# Altium integrated library Res-SMD_V2.IntLib: 2369 symbols (part 1 of 18)
Pins are listed as number, name and electrical type; pins without a type are passive.

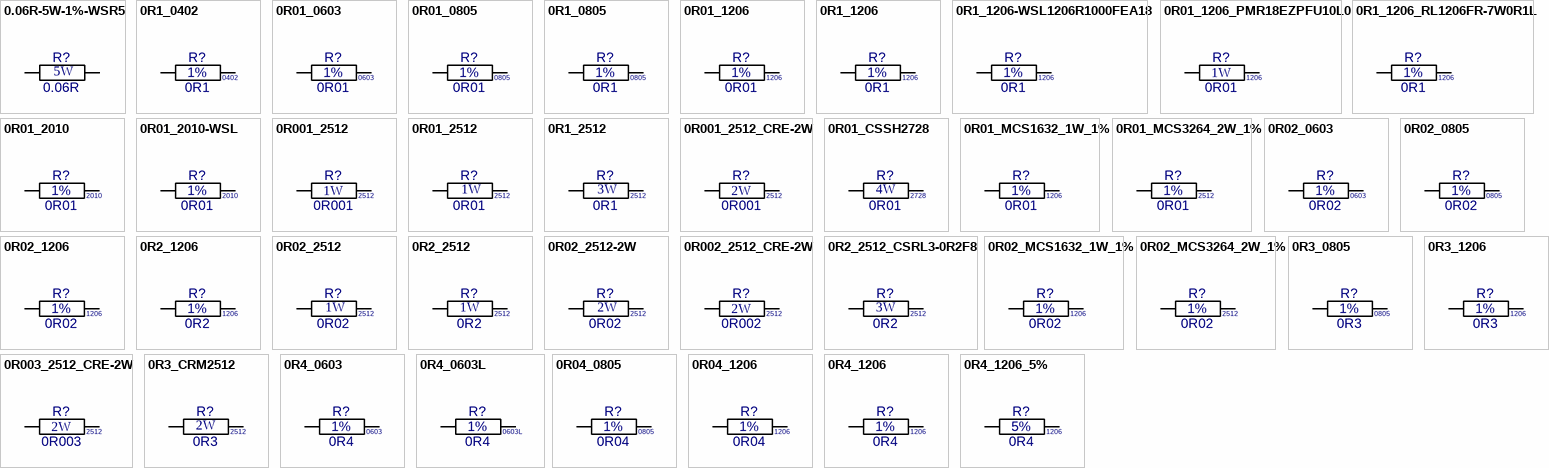
[diagram p0: symbols 0.06R-5W-1%-WSR5 to 0R4_1206_5%]

## 0.06R-5W-1%-WSR5
designator R?  value 0.06R  Watt: 5W  (hidden comment: 0.06R-5W-1%-WSR5)
Resistor Power Metal Strip; Manufacturer: Yageo; Part Number: WSR5R0600FEA; Tol: 1%; Reutech PN: 5905-CR-0060; Package: RES-WSR5; EDM-PN: *; Text2: *; Text1: *; SAAB PN: *; DCE Part No: *
footprint Res-WSR5 (Res WSR 5W 11.56x6.98mm)
pins: 1, 2

## 0R1_0402
designator R?, comment value 0R1  Tol: 1%  Text1: 0402  (hidden comment: 0R1_R0402_1%)
Resistor Chip SMD; Manufacturer: Various; Part Number: 0R1 0402 1%; Watt: 63mW; EDM-PN: RES1494; Package: RESC0402X40N; Text2: *; Reutech PN: *; SAAB PN: *; DCE Part No: *
footprint RESC0402X40N (Chip Resistor, 0402, 2-Leads, Body 1.1x0.5mm, IPC Medium Density)
pins: 1, 2

## 0R01_0603
designator R?, comment value 0R01  Tol: 1%  Text1: 0603  (hidden comment: 0R01_R0603_1%)
Resistor Chip SMD; Manufacturer: Various; Part Number: 0R01 0603 1%; Watt: 250mW; Package: RESC0603X60N; EDM-PN: *; Text2: *; Reutech PN: *; SAAB PN: *; DCE Part No: *
footprint RESC0603X60N (Chip Resistor, 0603, 2-Leads, Body 1.6x0.8mm, IPC Medium Density)
pins: 1, 2

## 0R01_0805
designator R?, comment value 0R01  Tol: 1%  Text1: 0805  (hidden comment: 0R01_R0805_1%)
Resistor Chip SMD; Manufacturer: Various; Part Number: 0R01 0805 1%; Watt: 250mW; Package: RESC0805X65N; EDM-PN: *; Text2: *; Reutech PN: *; SAAB PN: *; DCE Part No: *
footprint RESC0805X65N (Chip Resistor, 0805, 2-Leads, Body 2.0x1.3mm, IPC Medium Density)
pins: 1, 2

## 0R1_0805
designator R?, comment value 0R1  Tol: 1%  Text1: 0805  (hidden comment: 0R1_R0805_1%)
Resistor Chip SMD; Manufacturer: Various; Part Number: 0R1 0805 1%; Watt: 125mW; Package: RESC0805X65N; EDM-PN: *; Text2: *; Reutech PN: *; SAAB PN: *; DCE Part No: *
footprint RESC0805X65N (Chip Resistor, 0805, 2-Leads, Body 2.0x1.3mm, IPC Medium Density)
pins: 1, 2

## 0R01_1206
designator R?, comment value 0R01  Tol: 1%  Text1: 1206  (hidden comment: 0R01_R1206_1%)
Resistor Chip SMD; Manufacturer: Various; Part Number: 0R01 1206 1%; Watt: 250mW; Package: RESC1206X71N; EDM-PN: *; Text2: *; Reutech PN: *; SAAB PN: *; DCE Part No: *
footprint RESC1206X71N (Chip Resistor, 1206, 2-Leads, Body 3.2x1.6mm, IPC Medium Density)
pins: 1, 2

## 0R1_1206
designator R?, comment value 0R1  Tol: 1%  Text1: 1206  (hidden comment: 0R1_R1206_1%)
Resistor Chip SMD; Manufacturer: Various; Part Number: 0R1 1206 1%; Watt: 250mW; Package: RESC1206X71N; EDM-PN: *; Text2: *; Reutech PN: *; SAAB PN: *; DCE Part No: *
footprint RESC1206X71N (Chip Resistor, 1206, 2-Leads, Body 3.2x1.6mm, IPC Medium Density)
pins: 1, 2

## 0R1_1206-WSL1206R1000FEA18
designator R?, comment value 0R1  Tol: 1%  Text1: 1206  (hidden comment: WSL1206R1000FEA18)
Resistor Chip Power metal Strip AEC-Q200; Manufacturer: Vishy; Watt: 500mW; Reutech PN: 5905-CH-0001; Part Number: WSL1206R1000FEA18; Package: RESC1206X71N; EDM-PN: *; Text2: *; SAAB PN: *; DCE Part No: *
footprint RESC1206X71N (Chip Resistor, 1206, 2-Leads, Body 3.2x1.6mm, IPC Medium Density)
pins: 1, 2

## 0R01_1206_PMR18EZPFU10L0
designator R?, comment value 0R01  Watt: 1W  Text1: 1206  (hidden comment: PMR18EZPFU10L0)
Resistor Chip SMD; Manufacturer: Rohm; Tol: 1%; Part Number: PMR18EZPFU10L0; Package: RES-PMR18-1206; EDM-PN: *; Text2: *; Reutech PN: *; SAAB PN: *; DCE Part No: *
footprint RES-PMR18-1206 (PMR18 3.2x1.6mm)
pins: 1, 2

## 0R1_1206_RL1206FR-7W0R1L
designator R?, comment value 0R1  Tol: 1%  Text1: 1206  (hidden comment: RL1206FR-7W0R1L)
Resistor Current Sense; Manufacturer: Yageo; Watt: 500mW; Part Number: RL1206FR-7W0R1L; Package: RESC1206X71N; EDM-PN: *; Text2: *; Reutech PN: *; SAAB PN: *; DCE Part No: *
footprint RESC1206X71N (Chip Resistor, 1206, 2-Leads, Body 3.2x1.6mm, IPC Medium Density)
pins: 1, 2

## 0R01_2010
designator R?, comment value 0R01  Tol: 1%  Text1: 2010  (hidden comment: 0R01_R2010_1%)
Resistor Current Sense Thick Film; Manufacturer: Stackpole; Part Number: CSRN2010FK10L0; Watt: 500mW; EDM-PN: RES1378; Package: RESC2010X71N; Text2: *; Reutech PN: *; SAAB PN: *; DCE Part No: *
footprint RESC2010X71N (Chip Resistor, 2010, 2-Leads, Body 5.0x2.5mm, IPC Medium Density)
pins: 1, 2

## 0R01_2010-WSL
designator R?, comment value 0R01  Tol: 1%  Text1: 2010  (hidden comment: WSL2010R0100FEA)
Resistor High Current Jumper; Manufacturer: Vishay; Watt: 500mW; SAAB PN: 1ACA00466AEA; Part Number: WSL2010R0100FEA; Package: RES-WSL2010-H; EDM-PN: *; Text2: *; Reutech PN: *; DCE Part No: *
footprint RES-WSL2010-H (Resistor, WSL2010, 2-Leads, Body 5.0x2.5mm, IPC Medium Density)
pins: 1, 2

## 0R001_2512
designator R?, comment value 0R001  Watt: 1W  Text1: 2512  (hidden comment: 0R001_R2512_1%)
Resistor Chip SMD; Manufacturer: Various; Part Number: 0R001 2512 1%; Tol: 1%; Package: RESC2512X71N; EDM-PN: *; Text2: *; Reutech PN: *; SAAB PN: *; DCE Part No: *
footprint RESC2512X71N (Chip Resistor, 2512, 2-Leads, Body 6.3x3.2mm, IPC Medium Density)
pins: 1, 2

## 0R01_2512
designator R?, comment value 0R01  Watt: 1W  Text1: 2512  (hidden comment: 0R01_R2512_1W_1%)
Resistor Metal Strip; Manufacturer: Various; Part Number: 0R01 2512  1%; Tol: 1%; Package: RESC2512X71N; EDM-PN: *; Text2: *; Reutech PN: *; SAAB PN: *; DCE Part No: *
footprint RESC2512X71N (Chip Resistor, 2512, 2-Leads, Body 6.3x3.2mm, IPC Medium Density)
pins: 1, 2

## 0R1_2512
designator R?, comment value 0R1  Watt: 3W  Text1: 2512  (hidden comment: 0R1_R2512_3W_1%)
Resistor Chip SMD; Manufacturer: Various; Part Number: 0R1 2512  1%; EDM-PN: RES1515; Reutech PN: 5905-CR-0061; Tol: 1%; Package: RESC2512X71N; Text2: *; SAAB PN: *; DCE Part No: *
footprint RESC2512X71N (Chip Resistor, 2512, 2-Leads, Body 6.3x3.2mm, IPC Medium Density)
pins: 1, 2

## 0R001_2512_CRE-2W
designator R?, comment value 0R001  Watt: 2W  Text1: 2512  (hidden comment: 0R001_R2512_1%-CRE2W)
Resistor Chip High Power Current Sense; Manufacturer: Bourns; Part Number: CRE2512-FZ-R001E-2; Tol: 1%; Package: CRE2512_1-3; EDM-PN: *; Text2: *; Reutech PN: *; SAAB PN: *; DCE Part No: *
footprint CRE2512_1-3 (Resistor 2512 6.3x3.35mm)
pins: 1, 2

## 0R01_CSSH2728
designator R?, comment value 0R01  Watt: 4W  Text1: 2728  (hidden comment: 0R01_CSSH2728_4W_1%)
Resistor Ultra Precision Current Sensing; Manufacturer: Stackpole; Part Number: CSSH2728FT10L0; Tol: 1%; Package: RES-CSSH2728; EDM-PN: *; Text2: *; Reutech PN: *; SAAB PN: *; DCE Part No: *
footprint RES-CSSH2728 (Chip Resistor 2728 6.71x7.19mm)
pins: 1, 2

## 0R01_MCS1632_1W_1%
designator R?  value 0R01  Tol: 1%  Text1: 1206  (hidden comment: 0R01_MCS1632_1W_1%)
Res Metal Element Current Sense; Manufacturer: Ohmite; Part Number: MCS1632R010FER; Watt: 1W; EDM-PN: RES1486; Package: RES-MCS1631; Text2: *; Reutech PN: *; SAAB PN: *; DCE Part No: *
footprint RES-MCS1632 (Chip Resistor 3.2x1.6mm)
pins: 1, 2

## 0R01_MCS3264_2W_1%
designator R?  value 0R01  Tol: 1%  Text1: 2512  (hidden comment: 0R01_MCS3264_2W_1%)
Res Metal Element Current Sense; Manufacturer: Ohmite; Part Number: MCS3264R010FER; Watt: 2W; Package: RES-MCS3264; EDM-PN: *; Text2: *; Reutech PN: *; SAAB PN: *; DCE Part No: *
footprint RES-MCS3264 (Chip Resistor 6.4x3.2mm)
pins: 1, 2

## 0R02_0603
designator R?, comment value 0R02  Tol: 1%  Text1: 0603  (hidden comment: 0R02_R0603_1%)
Resistor Chip SMD; Manufacturer: Various; Part Number: 0R02 0603 1%; Watt: 100mW; Package: RESC0603X60N; EDM-PN: *; Text2: *; Reutech PN: *; SAAB PN: *; DCE Part No: *
footprint RESC0603X60N (Chip Resistor, 0603, 2-Leads, Body 1.6x0.8mm, IPC Medium Density)
pins: 1, 2

## 0R02_0805
designator R?, comment value 0R02  Tol: 1%  Text1: 0805  (hidden comment: 0R02_R0805_1%)
Resistor Chip SMD; Manufacturer: Various; Part Number: 0R02 0805 1%; Watt: 125mW; Package: RESC0805X65N; EDM-PN: *; Text2: *; Reutech PN: *; SAAB PN: *; DCE Part No: *
footprint RESC0805X65N (Chip Resistor, 0805, 2-Leads, Body 2.0x1.3mm, IPC Medium Density)
pins: 1, 2

## 0R02_1206
designator R?, comment value 0R02  Tol: 1%  Text1: 1206  (hidden comment: 0R02_R1206_1%)
Resistor Chip SMD; Manufacturer: Various; Part Number: 0R02 1206 1%; Watt: 250mW; Package: RESC1206X71N; EDM-PN: *; Text2: *; Reutech PN: *; SAAB PN: *; DCE Part No: *
footprint RESC1206X71N (Chip Resistor, 1206, 2-Leads, Body 3.2x1.6mm, IPC Medium Density)
pins: 1, 2

## 0R2_1206
designator R?, comment value 0R2  Tol: 1%  Text1: 1206  (hidden comment: 0R2_R1206_1%)
Resistor Chip SMD; Manufacturer: Various; Part Number: 0R2 1206 1%; Watt: 250mW; Package: RESC1206X71N; EDM-PN: *; Text2: *; Reutech PN: *; SAAB PN: *; DCE Part No: *
footprint RESC1206X71N (Chip Resistor, 1206, 2-Leads, Body 3.2x1.6mm, IPC Medium Density)
pins: 1, 2

## 0R02_2512
designator R?, comment value 0R02  Watt: 1W  Text1: 2512  (hidden comment: 0R02_R2512_1W_1%)
Resistor Chip SMD; Manufacturer: Various; Part Number: 0R02 2512  1%; Tol: 1%; Package: RESC2512X71N; EDM-PN: *; Text2: *; Reutech PN: *; SAAB PN: *; DCE Part No: *
footprint RESC2512X71N (Chip Resistor, 2512, 2-Leads, Body 6.3x3.2mm, IPC Medium Density)
pins: 1, 2

## 0R2_2512
designator R?, comment value 0R2  Watt: 1W  Text1: 2512  (hidden comment: 0R2_R2512_1%)
Resistor Chip SMD; Manufacturer: Various; Part Number: 0R2 2512 1%; Tol: 1%; Package: RESC2512X71N; EDM-PN: *; Text2: *; Reutech PN: *; SAAB PN: *; DCE Part No: *
footprint RESC2512X71N (Chip Resistor, 2512, 2-Leads, Body 6.3x3.2mm, IPC Medium Density)
pins: 1, 2

## 0R02_2512-2W
designator R?, comment value 0R02  Watt: 2W  Text1: 2512  (hidden comment: 0R02_R2512_1W_1%-2W)
Resistor Chip SMD Thick Film; Manufacturer: Various; Part Number: 0R02 2512  1% 2Watt; Tol: 1%; Package: RESC2512X71N; EDM-PN: *; Text2: *; Reutech PN: *; SAAB PN: *; DCE Part No: *
footprint RESC2512X71N (Chip Resistor, 2512, 2-Leads, Body 6.3x3.2mm, IPC Medium Density)
pins: 1, 2

## 0R002_2512_CRE-2W
designator R?, comment value 0R002  Watt: 2W  Text1: 2512  (hidden comment: 0R002_R2512_1%-CRE-2W)
Resistor Chip High Power Current Sense; Manufacturer: Bourns; Part Number: CRE2512-FZ-R002E-2; Tol: 1%; Package: CRE2512_1-3; EDM-PN: *; Text2: *; Reutech PN: *; SAAB PN: *; DCE Part No: *
footprint CRE2512_1-3 (Resistor 2512 6.3x3.35mm)
pins: 1, 2

## 0R2_2512_CSRL3-0R2F8
designator R?, comment value 0R2  Watt: 3W  Text1: 2512  (hidden comment: CSRL3-0R2F8)
Resistor Current Sense; Manufacturer: Riedon; Tol: 5%; Reutech PN: 5905-CR-0022; Part Number: CSRL3-0R2F8; Package: RESC2512X71N; EDM-PN: *; Text2: *; SAAB PN: *; DCE Part No: *
footprint RESC2512X71N (Chip Resistor, 2512, 2-Leads, Body 6.3x3.2mm, IPC Medium Density)
pins: 1, 2

## 0R02_MCS1632_1W_1%
designator R?  value 0R02  Tol: 1%  Text1: 1206  (hidden comment: 0R02_MCS1632_1W_1%)
Res Metal Element Current Sense; Manufacturer: Ohmite; Part Number: MCS1632R020FER; Watt: 1W; Package: RES-MCS1631; EDM-PN: *; Text2: *; Reutech PN: *; SAAB PN: *; DCE Part No: *
footprint RES-MCS1632 (Chip Resistor 3.2x1.6mm)
pins: 1, 2

## 0R02_MCS3264_2W_1%
designator R?  value 0R02  Tol: 1%  Text1: 2512  (hidden comment: 0R02_MCS3264_2W_1%)
Res Metal Element Current Sense; Manufacturer: Ohmite; Part Number: MCS3264R020FER; Watt: 2W; Package: RES-MCS3264; EDM-PN: *; Text2: *; Reutech PN: *; SAAB PN: *; DCE Part No: *
footprint RES-MCS3264 (Chip Resistor 6.4x3.2mm)
pins: 1, 2

## 0R3_0805
designator R?, comment value 0R3  Tol: 1%  Text1: 0805  (hidden comment: 0R3_R0805_1%)
Resistor Chip SMD; Manufacturer: Various; Part Number: 0R3 0805 1%; Watt: 125mW; Package: RESC0805X65N; EDM-PN: *; Text2: *; Reutech PN: *; SAAB PN: *; DCE Part No: *
footprint RESC0805X65N (Chip Resistor, 0805, 2-Leads, Body 2.0x1.3mm, IPC Medium Density)
pins: 1, 2

## 0R3_1206
designator R?, comment value 0R3  Tol: 1%  Text1: 1206  (hidden comment: 0R3_R1206_1%)
Resistor Chip SMD; Manufacturer: Various; Part Number: 0R3 1206 1%; Watt: 250mW; Package: RESC1206X71N; EDM-PN: *; Text2: *; Reutech PN: *; SAAB PN: *; DCE Part No: *
footprint RESC1206X71N (Chip Resistor, 1206, 2-Leads, Body 3.2x1.6mm, IPC Medium Density)
pins: 1, 2

## 0R003_2512_CRE-2W
designator R?, comment value 0R003  Watt: 2W  Text1: 2512  (hidden comment: 0R003_R2512_1%-CRE-2W)
Resistor Chip High Power Current Sense; Manufacturer: Bourns; Part Number: CRE2512-FZ-R003E-2; Tol: 1%; Package: CRE2512_1-3; EDM-PN: *; Text2: *; Reutech PN: *; SAAB PN: *; DCE Part No: *
footprint CRE2512_1-3 (Resistor 2512 6.3x3.35mm)
pins: 1, 2

## 0R3_CRM2512
designator R?, comment value 0R3  Watt: 2W  Text1: 2512  (hidden comment: 0R3_CRM2512_1%)
Resistor Pulse Resistant; Manufacturer: Bourns; Part Number: CRM2512FX-R300ELF; Tol: 1%; Package: CRM2512; EDM-PN: *; Text2: *; Reutech PN: *; SAAB PN: *; DCE Part No: *
footprint CRM2512 (CRM2512 6.3x3.2mm, IPC Medium Density)
pins: 1, 2

## 0R4_0603
designator R?, comment value 0R4  Tol: 1%  Text1: 0603  (hidden comment: 0R4_R0603_1%)
Resistor Chip SMD; Manufacturer: Walsin; Part Number: WW06PR402FTL; Watt: 250mW; Package: RESC0603X60N; EDM-PN: *; Text2: *; Reutech PN: *; SAAB PN: *; DCE Part No: *
footprint RESC0603X60N (Chip Resistor, 0603, 2-Leads, Body 1.6x0.8mm, IPC Medium Density)
pins: 1, 2

## 0R4_0603L
designator R?, comment value 0R4  Tol: 1%  Text1: 0603L  (hidden comment: 0R4_R0603L_1%)
Resistor Chip SMD; Manufacturer: Walsin; Part Number: WW06PR402FTL; Watt: 250mW; Package: RESC0603X60L; EDM-PN: *; Text2: *; Reutech PN: *; SAAB PN: *; DCE Part No: *
footprint RESC0603X60L (Chip Resistor, 0603, 2-Leads, Body 1.6x0.8mm, IPC Low Density)
pins: 1, 2

## 0R04_0805
designator R?, comment value 0R04  Tol: 1%  Text1: 0805  (hidden comment: 0R04_R0805_1%)
Resistor Chip SMD; Manufacturer: Various; Part Number: 0R04 0805 1%; Watt: 125mW; Package: RESC0805X65N; EDM-PN: *; Text2: *; Reutech PN: *; SAAB PN: *; DCE Part No: *
footprint RESC0805X65N (Chip Resistor, 0805, 2-Leads, Body 2.0x1.3mm, IPC Medium Density)
pins: 1, 2

## 0R04_1206
designator R?, comment value 0R04  Tol: 1%  Text1: 1206  (hidden comment: 0R04_R1206_1%)
Resistor Chip SMD; Manufacturer: Various; Part Number: 0R04 1206 1%; Watt: 250mW; Package: RESC1206X71N; EDM-PN: *; Text2: *; Reutech PN: *; SAAB PN: *; DCE Part No: *
footprint RESC1206X71N (Chip Resistor, 1206, 2-Leads, Body 3.2x1.6mm, IPC Medium Density)
pins: 1, 2

## 0R4_1206
designator R?, comment value 0R4  Tol: 1%  Text1: 1206  (hidden comment: 0R4_R1206_1%)
Resistor Chip SMD; Manufacturer: Various; Part Number: 0R4 1206 1%; Watt: 250mW; EDM-PN: RES1440; Package: RESC1206X71N; Text2: *; Reutech PN: *; SAAB PN: *; DCE Part No: *
footprint RESC1206X71N (Chip Resistor, 1206, 2-Leads, Body 3.2x1.6mm, IPC Medium Density)
pins: 1, 2

## 0R4_1206_5%
designator R?, comment value 0R4  Tol: 5%  Text1: 1206  (hidden comment: 0R4_R1206_5%)
Resistor Chip SMD; Manufacturer: Various; Part Number: 0R4 1206 5%; Watt: 250mW; Package: RESC1206X71N; EDM-PN: *; Text2: *; Reutech PN: *; SAAB PN: *; DCE Part No: *
footprint RESC1206X71N (Chip Resistor, 1206, 2-Leads, Body 3.2x1.6mm, IPC Medium Density)
pins: 1, 2

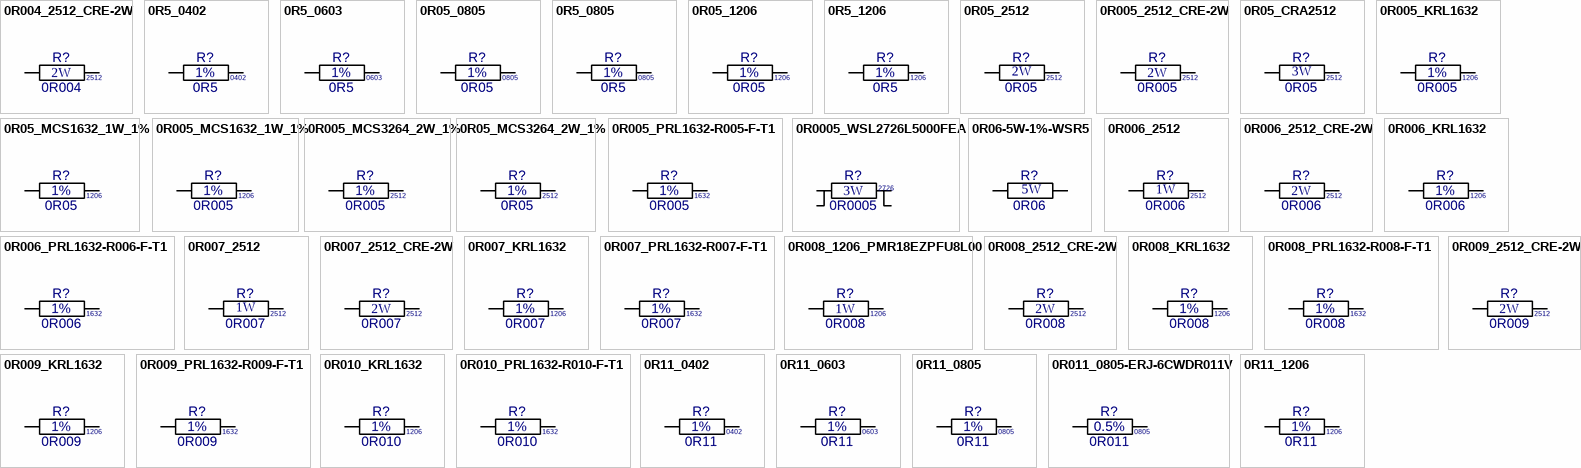
[diagram p1: symbols 0R004_2512_CRE-2W to 0R11_1206]

## 0R004_2512_CRE-2W
designator R?, comment value 0R004  Watt: 2W  Text1: 2512  (hidden comment: 0R004_R2512_1%-CRE-2W)
Resistor Chip High Power Current Sense; Manufacturer: Bourns; Part Number: CRE2512-FZ-R004E-2; Tol: 1%; Package: CRE2512_4-9; EDM-PN: *; Text2: *; Reutech PN: *; SAAB PN: *; DCE Part No: *
footprint CRE2512_4-9 (Resistor 2512 6.3x3.35mm)
pins: 1, 2

## 0R5_0402
designator R?, comment value 0R5  Tol: 1%  Text1: 0402  (hidden comment: 0R5_R0402_1%)
Resistor Chip SMD; Manufacturer: Various; Part Number: 0R5 0402 1%; Watt: 63mW; Package: RESC0402X40N; EDM-PN: *; Text2: *; Reutech PN: *; SAAB PN: *; DCE Part No: *
footprint RESC0402X40N (Chip Resistor, 0402, 2-Leads, Body 1.1x0.5mm, IPC Medium Density)
pins: 1, 2

## 0R5_0603
designator R?, comment value 0R5  Tol: 1%  Text1: 0603  (hidden comment: 0R5_R0603_1%)
Resistor Chip SMD; Manufacturer: Various; Part Number: 0R5 0603 1%; Watt: 100mW; Package: RESC0603X60N; EDM-PN: *; Text2: *; Reutech PN: *; SAAB PN: *; DCE Part No: *
footprint RESC0603X60N (Chip Resistor, 0603, 2-Leads, Body 1.6x0.8mm, IPC Medium Density)
pins: 1, 2

## 0R05_0805
designator R?, comment value 0R05  Tol: 1%  Text1: 0805  (hidden comment: 0R05_R0805_1%)
Resistor Chip SMD; Manufacturer: Various; Part Number: 0R05 0805 1%; Watt: 125mW; Package: RESC0805X65N; EDM-PN: *; Text2: *; Reutech PN: *; SAAB PN: *; DCE Part No: *
footprint RESC0805X65N (Chip Resistor, 0805, 2-Leads, Body 2.0x1.3mm, IPC Medium Density)
pins: 1, 2

## 0R5_0805
designator R?, comment value 0R5  Tol: 1%  Text1: 0805  (hidden comment: 0R5_R0805_1%)
Resistor Chip SMD; Manufacturer: Various; Part Number: 0R5 0805 1%; Watt: 125mW; Package: RESC0805X65N; EDM-PN: *; Text2: *; Reutech PN: *; SAAB PN: *; DCE Part No: *
footprint RESC0805X65N (Chip Resistor, 0805, 2-Leads, Body 2.0x1.3mm, IPC Medium Density)
pins: 1, 2

## 0R05_1206
designator R?, comment value 0R05  Tol: 1%  Text1: 1206  (hidden comment: 0R05_R1206_1%)
Resistor Chip SMD; Manufacturer: Various; Part Number: 0R05 1206 1%; Watt: 250mW; Package: RESC1206X71N; EDM-PN: *; Text2: *; Reutech PN: *; SAAB PN: *; DCE Part No: *
footprint RESC1206X71N (Chip Resistor, 1206, 2-Leads, Body 3.2x1.6mm, IPC Medium Density)
pins: 1, 2

## 0R5_1206
designator R?, comment value 0R5  Tol: 1%  Text1: 1206  (hidden comment: 0R5_R1206_1%)
Resistor Chip SMD; Manufacturer: Various; Part Number: 0R5 1206 1%; Watt: 250mW; Package: RESC1206X71N; EDM-PN: *; Text2: *; Reutech PN: *; SAAB PN: *; DCE Part No: *
footprint RESC1206X71N (Chip Resistor, 1206, 2-Leads, Body 3.2x1.6mm, IPC Medium Density)
pins: 1, 2

## 0R05_2512
designator R?, comment value 0R05  Watt: 2W  Text1: 2512  (hidden comment: 0R05_R2512_1%)
Resistor Metal Film; Manufacturer: Various; Part Number: 0R05 2512 1%; Tol: 1%; Package: RESC2512X71N; EDM-PN: *; Text2: *; Reutech PN: *; SAAB PN: *; DCE Part No: *
footprint RESC2512X71N (Chip Resistor, 2512, 2-Leads, Body 6.3x3.2mm, IPC Medium Density)
pins: 1, 2

## 0R005_2512_CRE-2W
designator R?, comment value 0R005  Watt: 2W  Text1: 2512  (hidden comment: 0R005_R2512_1%-CRE-2W)
Resistor Chip High Power Current Sense; Manufacturer: Bourns; Part Number: CRE2512-FZ-R005E-2; Tol: 1%; Package: CRE2512_4-9; EDM-PN: *; Text2: *; Reutech PN: *; SAAB PN: *; DCE Part No: *
footprint CRE2512_4-9 (Resistor 2512 6.3x3.35mm)
pins: 1, 2

## 0R05_CRA2512
designator R?, comment value 0R05  Watt: 3W  Text1: 2512  (hidden comment: 0R05_CRA2512_1%)
Resistor Metal Film; Manufacturer: Bourns; Part Number: CRA2512-FZ-R050 ELF; Tol: 1%; Package: CRA2512; EDM-PN: *; Text2: *; Reutech PN: *; SAAB PN: *; DCE Part No: *
footprint CRA2512 (CRA2512 6.45x3.35mm)
pins: 1, 2

## 0R005_KRL1632
designator R?, comment value 0R005  Tol: 1%  Text1: 1206  (hidden comment: 0R005_KRL1632_1%)
Resistor Metal Foil; Manufacturer: Susumu; Part Number: KRL1632-C-R005-F; Watt: 500mW; Package: RESC1206X71N; EDM-PN: *; Text2: *; Reutech PN: *; SAAB PN: *; DCE Part No: *
footprint RESC1206X71N (Chip Resistor, 1206, 2-Leads, Body 3.2x1.6mm, IPC Medium Density)
pins: 1, 2

## 0R05_MCS1632_1W_1%
designator R?  value 0R05  Tol: 1%  Text1: 1206  (hidden comment: 0R05_MCS1632_1W_1%)
Res Metal Element Current Sense; Manufacturer: Ohmite; Part Number: MCS1632R050FER; Watt: 1W; Package: RES-MCS1632; EDM-PN: *; Text2: *; Reutech PN: *; SAAB PN: *; DCE Part No: *
footprint RES-MCS1632 (Chip Resistor 3.2x1.6mm)
pins: 1, 2

## 0R005_MCS1632_1W_1%
designator R?  value 0R005  Tol: 1%  Text1: 1206  (hidden comment: 0R005_MCS1632_1W_1%)
Res Metal Element Current Sense; Manufacturer: Ohmite; Part Number: MCS1632R005FER; Watt: 1W; Package: RES-MCS1632; EDM-PN: *; Text2: *; Reutech PN: *; SAAB PN: *; DCE Part No: *
footprint RES-MCS1632 (Chip Resistor 3.2x1.6mm)
pins: 1, 2

## 0R005_MCS3264_2W_1%
designator R?  value 0R005  Tol: 1%  Text1: 2512  (hidden comment: 0R005_MCS3264_2W_1%)
Res Metal Element Current Sense; Manufacturer: Ohmite; Part Number: MCS3264R005FER; Watt: 2W; Package: RES-MCS3264; EDM-PN: *; Text2: *; Reutech PN: *; SAAB PN: *; DCE Part No: *
footprint RES-MCS3264 (Chip Resistor 6.4x3.2mm)
pins: 1, 2

## 0R05_MCS3264_2W_1%
designator R?  value 0R05  Tol: 1%  Text1: 2512  (hidden comment: 0R05_MCS3264_2W_1%)
Res Metal Element Current Sense; Manufacturer: Ohmite; Part Number: MCS3264R050FER; Watt: 2W; Package: RES-MCS3264; EDM-PN: *; Text2: *; Reutech PN: *; SAAB PN: *; DCE Part No: *
footprint RES-MCS3264 (Chip Resistor 6.4x3.2mm)
pins: 1, 2

## 0R005_PRL1632-R005-F-T1
designator R?, comment value 0R005  Tol: 1%  Text1: 1632  (hidden comment: PRL1632-R005-F-T1)
Resistor Chip Low Resistance Long Side; Manufacturer: Susumu; Watt: 1W; Part Number: PRL1632-R005-F-T1; Package: RES-PRL1632; EDM-PN: *; Text2: *; Reutech PN: *; SAAB PN: *; DCE Part No: *
footprint RES-PRL1632 (PRL1632 3.2x1.6mm)
pins: 1, 2

## 0R0005_WSL2726L5000FEA
designator R?, comment value 0R0005  Watt: 3W  Text1: 2726  (hidden comment: WSL2726L5000FEA)
Resistor Power Metal Strip; Manufacturer: Vishay; Tol: 1%; Reutech PN: 5905-CR-0007; Part Number: WSL2726L5000FEA; Package: WSL2726L5000FEA; EDM-PN: *; Text2: *; SAAB PN: *; DCE Part No: *
footprint WSL2726L5000FEA (WSL2726L5000FEA 6.9x6.6mm)
pins: 1, 2, 3, 4

## 0R06-5W-1%-WSR5
designator R?  value 0R06  Watt: 5W  (hidden comment: 0R06-5W-1%-WSR5)
Resistor Power Metal Strip; Manufacturer: Yageo; Part Number: WSR5R0600FEA; Tol: 1%; Reutech PN: 5905-CR-0060; Package: RES-WSR5; EDM-PN: *; Text2: *; Text1: *; SAAB PN: *; DCE Part No: *
footprint Res-WSR5 (Res WSR 5W 11.56x6.98mm)
pins: 1, 2

## 0R006_2512
designator R?, comment value 0R006  Watt: 1W  Text1: 2512  (hidden comment: 0R006_R2512_1%)
Resistor Chip SMD; Manufacturer: Panasonic; Part Number: ERJ-M1WSF6M0U; Tol: 1%; Package: RESC2512X71N; EDM-PN: *; Text2: *; Reutech PN: *; SAAB PN: *; DCE Part No: *
footprint RESC2512X71N (Chip Resistor, 2512, 2-Leads, Body 6.3x3.2mm, IPC Medium Density)
pins: 1, 2

## 0R006_2512_CRE-2W
designator R?, comment value 0R006  Watt: 2W  Text1: 2512  (hidden comment: 0R006_R2512_1%-CRE-2W)
Resistor Chip High Power Current Sense; Manufacturer: Bourns; Part Number: CRE2512-FZ-R006E-2; Tol: 1%; Package: CRE2512_4-9; EDM-PN: *; Text2: *; Reutech PN: *; SAAB PN: *; DCE Part No: *
footprint CRE2512_4-9 (Resistor 2512 6.3x3.35mm)
pins: 1, 2

## 0R006_KRL1632
designator R?, comment value 0R006  Tol: 1%  Text1: 1206  (hidden comment: 0R006_KRL1632_1%)
Resistor Metal Foil; Manufacturer: Susumu; Part Number: KRL1632-C-R006-F; Watt: 500mW; Package: RESC1206X71N; EDM-PN: *; Text2: *; Reutech PN: *; SAAB PN: *; DCE Part No: *
footprint RESC1206X71N (Chip Resistor, 1206, 2-Leads, Body 3.2x1.6mm, IPC Medium Density)
pins: 1, 2

## 0R006_PRL1632-R006-F-T1
designator R?, comment value 0R006  Tol: 1%  Text1: 1632  (hidden comment: PRL1632-R006-F-T1)
Resistor Chip Low Resistance Long Side; Manufacturer: Susumu; Watt: 1W; Part Number: PRL1632-R006-F-T1; Package: RES-PRL1632; EDM-PN: *; Text2: *; Reutech PN: *; SAAB PN: *; DCE Part No: *
footprint RES-PRL1632 (PRL1632 3.2x1.6mm)
pins: 1, 2

## 0R007_2512
designator R?, comment value 0R007  Watt: 1W  Text1: 2512  (hidden comment: 0R007_R2512_1%)
Resistor Chip SMD; Manufacturer: Panasonic; Part Number: ERJ-M1WSF7M0U; Tol: 1%; Package: RESC2512X71N; EDM-PN: *; Text2: *; Reutech PN: *; SAAB PN: *; DCE Part No: *
footprint RESC2512X71N (Chip Resistor, 2512, 2-Leads, Body 6.3x3.2mm, IPC Medium Density)
pins: 1, 2

## 0R007_2512_CRE-2W
designator R?, comment value 0R007  Watt: 2W  Text1: 2512  (hidden comment: 0R007_R2512_1%-CRE-2W)
Resistor Chip High Power Current Sense; Manufacturer: Bourns; Part Number: CRE2512-FZ-R007E-2; Tol: 1%; Package: CRE2512_4-9; EDM-PN: *; Text2: *; Reutech PN: *; SAAB PN: *; DCE Part No: *
footprint CRE2512_4-9 (Resistor 2512 6.3x3.35mm)
pins: 1, 2

## 0R007_KRL1632
designator R?, comment value 0R007  Tol: 1%  Text1: 1206  (hidden comment: 0R007_KRL1632_1%)
Resistor Metal Foil; Manufacturer: Susumu; Part Number: KRL1632-C-R007-F; Watt: 500mW; Package: RESC1206X71N; EDM-PN: *; Text2: *; Reutech PN: *; SAAB PN: *; DCE Part No: *
footprint RESC1206X71N (Chip Resistor, 1206, 2-Leads, Body 3.2x1.6mm, IPC Medium Density)
pins: 1, 2

## 0R007_PRL1632-R007-F-T1
designator R?, comment value 0R007  Tol: 1%  Text1: 1632  (hidden comment: PRL1632-R007-F-T1)
Resistor Chip Low Resistance Long Side; Manufacturer: Susumu; Watt: 1W; Part Number: PRL1632-R007-F-T1; Package: RES-PRL1632; EDM-PN: *; Text2: *; Reutech PN: *; SAAB PN: *; DCE Part No: *
footprint RES-PRL1632 (PRL1632 3.2x1.6mm)
pins: 1, 2

## 0R008_1206_PMR18EZPFU8L00
designator R?, comment value 0R008  Watt: 1W  Text1: 1206  (hidden comment: PMR18EZPFU8L00)
Resistor Chip SMD; Manufacturer: Rohm; Tol: 1%; Part Number: PMR18EZPFU8L00; Package: RES-PMR18-1206; EDM-PN: *; Text2: *; Reutech PN: *; SAAB PN: *; DCE Part No: *
footprint RES-PMR18-1206 (PMR18 3.2x1.6mm)
pins: 1, 2

## 0R008_2512_CRE-2W
designator R?, comment value 0R008  Watt: 2W  Text1: 2512  (hidden comment: 0R008_R2512_1%-CRE-2W)
Resistor Chip High Power Current Sense; Manufacturer: Bourns; Part Number: CRE2512-FZ-R008E-2; Tol: 1%; Package: CRE2512_4-9; EDM-PN: *; Text2: *; Reutech PN: *; SAAB PN: *; DCE Part No: *
footprint CRE2512_4-9 (Resistor 2512 6.3x3.35mm)
pins: 1, 2

## 0R008_KRL1632
designator R?, comment value 0R008  Tol: 1%  Text1: 1206  (hidden comment: 0R008_KRL1632_1%)
Resistor Metal Foil; Manufacturer: Susumu; Part Number: KRL1632-C-R008-F; Watt: 500mW; Package: RESC1206X71N; EDM-PN: *; Text2: *; Reutech PN: *; SAAB PN: *; DCE Part No: *
footprint RESC1206X71N (Chip Resistor, 1206, 2-Leads, Body 3.2x1.6mm, IPC Medium Density)
pins: 1, 2

## 0R008_PRL1632-R008-F-T1
designator R?, comment value 0R008  Tol: 1%  Text1: 1632  (hidden comment: PRL1632-R008-F-T1)
Resistor Chip Low Resistance Long Side; Manufacturer: Susumu; Watt: 1W; Part Number: PRL1632-R008-F-T1; Package: RES-PRL1632; EDM-PN: *; Text2: *; Reutech PN: *; SAAB PN: *; DCE Part No: *
footprint RES-PRL1632 (PRL1632 3.2x1.6mm)
pins: 1, 2

## 0R009_2512_CRE-2W
designator R?, comment value 0R009  Watt: 2W  Text1: 2512  (hidden comment: 0R009_R2512_1%-CRE-2W)
Resistor Chip High Power Current Sense; Manufacturer: Bourns; Part Number: CRE2512-FZ-R009E-2; Tol: 1%; Package: CRE2512_4-9; EDM-PN: *; Text2: *; Reutech PN: *; SAAB PN: *; DCE Part No: *
footprint CRE2512_4-9 (Resistor 2512 6.3x3.35mm)
pins: 1, 2

## 0R009_KRL1632
designator R?, comment value 0R009  Tol: 1%  Text1: 1206  (hidden comment: 0R009_KRL1632_1%)
Resistor Metal Foil; Manufacturer: Susumu; Part Number: KRL1632-C-R009-F; Watt: 500mW; Package: RESC1206X71N; EDM-PN: *; Text2: *; Reutech PN: *; SAAB PN: *; DCE Part No: *
footprint RESC1206X71N (Chip Resistor, 1206, 2-Leads, Body 3.2x1.6mm, IPC Medium Density)
pins: 1, 2

## 0R009_PRL1632-R009-F-T1
designator R?, comment value 0R009  Tol: 1%  Text1: 1632  (hidden comment: PRL1632-R009-F-T1)
Resistor Chip Low Resistance Long Side; Manufacturer: Susumu; Watt: 1W; Part Number: PRL1632-R009-F-T1; Package: RES-PRL1632; EDM-PN: *; Text2: *; Reutech PN: *; SAAB PN: *; DCE Part No: *
footprint RES-PRL1632 (PRL1632 3.2x1.6mm)
pins: 1, 2

## 0R010_KRL1632
designator R?, comment value 0R010  Tol: 1%  Text1: 1206  (hidden comment: 0R010_KRL1632_1%)
Resistor Metal Foil; Manufacturer: Susumu; Part Number: KRL1632-C-R010-F; Watt: 500mW; EDM-PN: RES897; Package: RESC1206X71N; Text2: *; Reutech PN: *; SAAB PN: *; DCE Part No: *
footprint RESC1206X71N (Chip Resistor, 1206, 2-Leads, Body 3.2x1.6mm, IPC Medium Density)
pins: 1, 2

## 0R010_PRL1632-R010-F-T1
designator R?, comment value 0R010  Tol: 1%  Text1: 1632  (hidden comment: PRL1632-R010-F-T1)
Resistor Chip Low Resistance Long Side; Manufacturer: Susumu; Watt: 1W; Part Number: PRL1632-R010-F-T1; Package: RES-PRL1632; EDM-PN: *; Text2: *; Reutech PN: *; SAAB PN: *; DCE Part No: *
footprint RES-PRL1632 (PRL1632 3.2x1.6mm)
pins: 1, 2

## 0R11_0402
designator R?, comment value 0R11  Tol: 1%  Text1: 0402  (hidden comment: 0R11_R0402_1%)
Resistor Chip SMD; Manufacturer: Various; Part Number: 0R11 0402 1%; Watt: 63mW; Package: RESC0402X40N; EDM-PN: *; Text2: *; Reutech PN: *; SAAB PN: *; DCE Part No: *
footprint RESC0402X40N (Chip Resistor, 0402, 2-Leads, Body 1.1x0.5mm, IPC Medium Density)
pins: 1, 2

## 0R11_0603
designator R?, comment value 0R11  Tol: 1%  Text1: 0603  (hidden comment: 0R11_R0603_1%)
Resistor Chip SMD; Manufacturer: Various; Part Number: 0R11 0603 1%; Watt: 100mW; Package: RESC0603X60N; EDM-PN: *; Text2: *; Reutech PN: *; SAAB PN: *; DCE Part No: *
footprint RESC0603X60N (Chip Resistor, 0603, 2-Leads, Body 1.6x0.8mm, IPC Medium Density)
pins: 1, 2

## 0R11_0805
designator R?, comment value 0R11  Tol: 1%  Text1: 0805  (hidden comment: 0R11_R0805_1%)
Resistor Chip SMD; Manufacturer: Various; Part Number: 0R11 0805 1%; Watt: 125mW; Package: RESC0805X65N; EDM-PN: *; Text2: *; Reutech PN: *; SAAB PN: *; DCE Part No: *
footprint RESC0805X65N (Chip Resistor, 0805, 2-Leads, Body 2.0x1.3mm, IPC Medium Density)
pins: 1, 2

## 0R011_0805-ERJ-6CWDR011V
designator R?, comment value 0R011  Tol: 0.5%  Text1: 0805  (hidden comment: ERJ-6CWDR011V)
Resistor Current Sense Thick Film; Manufacturer: Panasonic; Watt: 500mW; Part Number: ERJ-6CWDR011V; Package: RESC0805X65N; EDM-PN: *; Text2: *; Reutech PN: *; SAAB PN: *; DCE Part No: *
footprint RESC0805X65N (Chip Resistor, 0805, 2-Leads, Body 2.0x1.3mm, IPC Medium Density)
pins: 1, 2

## 0R11_1206
designator R?, comment value 0R11  Tol: 1%  Text1: 1206  (hidden comment: 0R11_R1206_1%)
Resistor Chip SMD; Manufacturer: Various; Part Number: 0R11 1206 1%; Watt: 250mW; Package: RESC1206X71N; EDM-PN: *; Text2: *; Reutech PN: *; SAAB PN: *; DCE Part No: *
footprint RESC1206X71N (Chip Resistor, 1206, 2-Leads, Body 3.2x1.6mm, IPC Medium Density)
pins: 1, 2

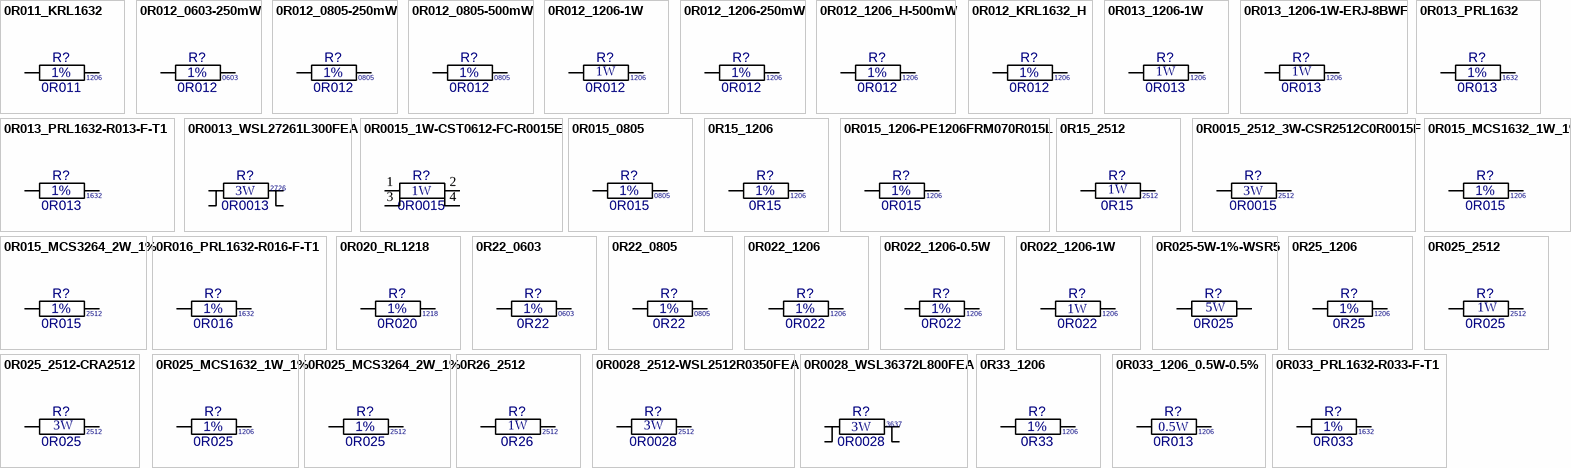
[diagram p2: symbols 0R011_KRL1632 to 0R033_PRL1632-R033-F-T1]

## 0R011_KRL1632
designator R?, comment value 0R011  Tol: 1%  Text1: 1206  (hidden comment: 0R011_KRL1632_1%)
Resistor Metal Foil; Manufacturer: Susumu; Part Number: KRL1632-C-R011-F; Watt: 500mW; Package: RESC1206X71N; EDM-PN: *; Text2: *; Reutech PN: *; SAAB PN: *; DCE Part No: *
footprint RESC1206X71N (Chip Resistor, 1206, 2-Leads, Body 3.2x1.6mm, IPC Medium Density)
pins: 1, 2

## 0R012_0603-250mW
designator R?, comment value 0R012  Tol: 1%  Text1: 0603  (hidden comment: 0R012_R0603-250mW)
Resistor Chip SMD; Manufacturer: Various; Part Number: 0R11 0603 1% 250mW; Watt: 250mW; Package: RESC0603X60N; EDM-PN: *; Text2: *; Reutech PN: *; SAAB PN: *; DCE Part No: *
footprint RESC0603X60N (Chip Resistor, 0603, 2-Leads, Body 1.6x0.8mm, IPC Medium Density)
pins: 1, 2

## 0R012_0805-250mW
designator R?, comment value 0R012  Tol: 1%  Text1: 0805  (hidden comment: 0R012_R0805-250mW)
Resistor Chip SMD; Manufacturer: Various; Part Number: 0R012 0805 1% 250mW; Watt: 250mW; Package: RESC0805X65N; EDM-PN: *; Text2: *; Reutech PN: *; SAAB PN: *; DCE Part No: *
footprint RESC0805X65N (Chip Resistor, 0805, 2-Leads, Body 2.0x1.3mm, IPC Medium Density)
pins: 1, 2

## 0R012_0805-500mW
designator R?, comment value 0R012  Tol: 1%  Text1: 0805  (hidden comment: 0R012_R0805-500mW)
Resistor Chip SMD; Manufacturer: Various; Part Number: 0R012 0805 1% 500mW; Watt: 500mW; Package: RESC0805X65N; EDM-PN: *; Text2: *; Reutech PN: *; SAAB PN: *; DCE Part No: *
footprint RESC0805X65N (Chip Resistor, 0805, 2-Leads, Body 2.0x1.3mm, IPC Medium Density)
pins: 1, 2

## 0R012_1206-1W
designator R?, comment value 0R012  Watt: 1W  Text1: 1206  (hidden comment: 0R012_R1206_1W)
Resistor Chip SMD; Manufacturer: Various; Part Number: 0R012 1206 1% 1W; Tol: 1%; Package: RESC1206X71N; EDM-PN: *; Text2: *; Reutech PN: *; SAAB PN: *; DCE Part No: *
footprint RESC1206X71N (Chip Resistor, 1206, 2-Leads, Body 3.2x1.6mm, IPC Medium Density)
pins: 1, 2

## 0R012_1206-250mW
designator R?, comment value 0R012  Tol: 1%  Text1: 1206  (hidden comment: 0R012_R1206_250mW)
Resistor Chip SMD; Manufacturer: Various; Part Number: 0R012 1206 1% 250mW; Watt: 250mW; Package: RESC1206X71N; EDM-PN: *; Text2: *; Reutech PN: *; SAAB PN: *; DCE Part No: *
footprint RESC1206X71N (Chip Resistor, 1206, 2-Leads, Body 3.2x1.6mm, IPC Medium Density)
pins: 1, 2

## 0R012_1206_H-500mW
designator R?, comment value 0R012  Tol: 1%  Text1: 1206  (hidden comment: 0R012_R1206_500mW)
Resistor Chip SMD; Manufacturer: Various; Part Number: 0R012 1206 1% 500mW; Watt: 500mW; Package: RESC1206X71N; EDM-PN: *; Text2: *; Reutech PN: *; SAAB PN: *; DCE Part No: *
footprint RESC1206X71N (Chip Resistor, 1206, 2-Leads, Body 3.2x1.6mm, IPC Medium Density)
pins: 1, 2

## 0R012_KRL1632_H
designator R?, comment value 0R012  Tol: 1%  Text1: 1206  (hidden comment: 0R012_KRL1632_1%)
Resistor Metal Foil; Manufacturer: Susumu; Part Number: KRL1632-C-R012-F; Watt: 500mW; Package: RESC1206X71N; EDM-PN: *; Text2: *; Reutech PN: *; SAAB PN: *; DCE Part No: *
footprint RESC1206X71N (Chip Resistor, 1206, 2-Leads, Body 3.2x1.6mm, IPC Medium Density)
pins: 1, 2

## 0R013_1206-1W
designator R?, comment value 0R013  Watt: 1W  Text1: 1206  (hidden comment: 0R013_R1206_1W)
Resistor Chip SMD; Manufacturer: Various; Part Number: 0R013 1206 1% 1W; Tol: 1%; Package: RESC1206X71N; EDM-PN: *; Text2: *; Reutech PN: *; SAAB PN: *; DCE Part No: *
footprint RESC1206X71N (Chip Resistor, 1206, 2-Leads, Body 3.2x1.6mm, IPC Medium Density)
pins: 1, 2

## 0R013_1206-1W-ERJ-8BWF
designator R?, comment value 0R013  Watt: 1W  Text1: 1206  (hidden comment: 0R013_R1206_1W)
Resistor Chip SMD; Manufacturer: Panasonic; Part Number: ERJ-8BWFR013V; Tol: 1%; Package: RESC1206X71N; EDM-PN: *; Text2: *; Reutech PN: *; SAAB PN: *; DCE Part No: *
footprint RESC1206X71N (Chip Resistor, 1206, 2-Leads, Body 3.2x1.6mm, IPC Medium Density)
pins: 1, 2

## 0R013_PRL1632
designator R?, comment value 0R013  Tol: 1%  Text1: 1632  (hidden comment: 0R013_ PRL1632_1%)
Resistor Chip Low Resistance Long Side; Manufacturer: Susumu; Part Number: PRL1632-R013-F-T1; Watt: 1W; Package: RES-PRL1632; EDM-PN: *; Text2: *; Reutech PN: *; SAAB PN: *; DCE Part No: *
footprint RES-PRL1632 (PRL1632 3.2x1.6mm)
pins: 1, 2

## 0R013_PRL1632-R013-F-T1
designator R?, comment value 0R013  Tol: 1%  Text1: 1632  (hidden comment: 0R013_ PRL1632_1%)
Resistor Chip Low Resistance Long Side; Manufacturer: Susumu; Part Number: PRL1632-R013-F-T1; Watt: 1W; Package: RES-PRL1632; EDM-PN: *; Text2: *; Reutech PN: *; SAAB PN: *; DCE Part No: *
footprint RES-PRL1632 (PRL1632 3.2x1.6mm)
pins: 1, 2

## 0R0013_WSL27261L300FEA
designator R?, comment value 0R0013  Watt: 3W  Text1: 2726  (hidden comment: WSL27261L300FEA)
Resistor Power Metal Strip; Manufacturer: Vishay; Tol: 1%; Reutech PN: 5905-CR-0008; Part Number: WSL27261L300FEA; Package: WSL27261L300FEA; EDM-PN: *; Text2: *; SAAB PN: *; DCE Part No: *
footprint WSL27261L300FEA (WSL27261L300FEA 6.9x6.6mm)
pins: 1, 2, 3, 4

## 0R0015_1W-CST0612-FC-R0015E
designator R?, comment value 0R0015  Watt: 1W  (hidden comment: CST0612-FC-R0015E)
Res Metal Element Current Sense; Manufacturer: Bourns; Tol: 1%; Text1: 0612; Part Number: CST0612-FC-R0015E; Package: RES-CST0612; EDM-PN: *; Text2: *; Reutech PN: *; SAAB PN: *; DCE Part No: *
footprint RES-CST0612 (CST0612 1.65x3.05mm)
pins: 1, 2, 3, 4

## 0R015_0805
designator R?, comment value 0R015  Tol: 1%  Text1: 0805  (hidden comment: 0R015_R0805_1%)
Resistor Chip SMD; Manufacturer: Various; Part Number: 0R015 0805 1%; Watt: 125mW; Package: RESC0805X65N; EDM-PN: *; Text2: *; Reutech PN: *; SAAB PN: *; DCE Part No: *
footprint RESC0805X65N (Chip Resistor, 0805, 2-Leads, Body 2.0x1.3mm, IPC Medium Density)
pins: 1, 2

## 0R15_1206
designator R?, comment value 0R15  Tol: 1%  Text1: 1206  (hidden comment: 0R15_R1206_1%)
Resistor Chip SMD; Manufacturer: Various; Part Number: 0R15 1206 1%; Watt: 250mW; Package: RESC1206X71N; EDM-PN: *; Text2: *; Reutech PN: *; SAAB PN: *; DCE Part No: *
footprint RESC1206X71N (Chip Resistor, 1206, 2-Leads, Body 3.2x1.6mm, IPC Medium Density)
pins: 1, 2

## 0R015_1206-PE1206FRM070R015L
designator R?, comment value 0R015  Tol: 1%  Text1: 1206  (hidden comment: PE1206FRM070R015L)
Res Metal Foil Current Sense; Manufacturer: Yegeo; Watt: 0.25W; Part Number: PE1206FRM070R015L; Package: RESC1206X71N; EDM-PN: *; Text2: *; Reutech PN: *; SAAB PN: *; DCE Part No: *
footprint RESC1206X71N (Chip Resistor, 1206, 2-Leads, Body 3.2x1.6mm, IPC Medium Density)
pins: 1, 2

## 0R15_2512
designator R?, comment value 0R15  Watt: 1W  Text1: 2512  (hidden comment: 0R15_R2512_1%)
Resistor Chip SMD; Manufacturer: Various; Part Number: 0R15 2512 1%; Tol: 1%; Package: RESC2512X71N; EDM-PN: *; Text2: *; Reutech PN: *; SAAB PN: *; DCE Part No: *
footprint RESC2512X71N (Chip Resistor, 2512, 2-Leads, Body 6.3x3.2mm, IPC Medium Density)
pins: 1, 2

## 0R0015_2512_3W-CSR2512C0R0015F
designator R?, comment value 0R0015  Watt: 3W  Text1: 2512  (hidden comment: CSR2512C0R0015F)
Resistor Power Current Sense; Manufacturer: Riedon; Tol: 1%; Part Number: CSR2512C0R0015F; Package: RESC2512X71N; EDM-PN: *; Text2: *; Reutech PN: *; SAAB PN: *; DCE Part No: *
footprint RESC2512X71N (Chip Resistor, 2512, 2-Leads, Body 6.3x3.2mm, IPC Medium Density)
pins: 1, 2

## 0R015_MCS1632_1W_1%
designator R?  value 0R015  Tol: 1%  Text1: 1206  (hidden comment: 0R015_MCS1632_1W_1%)
Res Metal Element Current Sense; Manufacturer: Ohmite; Part Number: MCS1632R015FER; Watt: 1W; Package: RES-MCS1632; EDM-PN: *; Text2: *; Reutech PN: *; SAAB PN: *; DCE Part No: *
footprint RES-MCS1632 (Chip Resistor 3.2x1.6mm)
pins: 1, 2

## 0R015_MCS3264_2W_1%
designator R?  value 0R015  Tol: 1%  Text1: 2512  (hidden comment: 0R015_MCS3264_2W_1%)
Res Metal Element Current Sense; Manufacturer: Ohmite; Part Number: MCS3264R015FER; Watt: 2W; Package: RES-MCS3264; EDM-PN: *; Text2: *; Reutech PN: *; SAAB PN: *; DCE Part No: *
footprint RES-MCS3264 (Chip Resistor 6.4x3.2mm)
pins: 1, 2

## 0R016_PRL1632-R016-F-T1
designator R?, comment value 0R016  Tol: 1%  Text1: 1632  (hidden comment: PRL1632-R016-F-T1)
Resistor Chip Low Resistance Long Side; Manufacturer: Susumu; Watt: 1W; Part Number: PRL1632-R016-F-T1; Package: RES-PRL1632; EDM-PN: *; Text2: *; Reutech PN: *; SAAB PN: *; DCE Part No: *
footprint RES-PRL1632 (PRL1632 3.2x1.6mm)
pins: 1, 2

## 0R020_RL1218
designator R?  value 0R020  Tol: 1%  Text1: 1218  (hidden comment: 0R020_RL1218)
Resistor Chip SMD; Manufacturer: Yageo; Part Number: RL1218FK-070R020L1; Watt: 125mW; Package: RESC1218N; EDM-PN: *; Text2: *; Reutech PN: *; SAAB PN: *; DCE Part No: *
footprint RESC1218N (Chip Resistor, 1218, 2-Leads, Body 3.2x4.6mm, IPC Medium Density)
pins: 1, 2

## 0R22_0603
designator R?, comment value 0R22  Tol: 1%  Text1: 0603  (hidden comment: 0R22_R0603_1%)
Resistor Chip SMD; Manufacturer: Various; Part Number: 0R22 0603 1%; Watt: 100mW; Package: RESC0603X60N; EDM-PN: *; Text2: *; Reutech PN: *; SAAB PN: *; DCE Part No: *
footprint RESC0603X60N (Chip Resistor, 0603, 2-Leads, Body 1.6x0.8mm, IPC Medium Density)
pins: 1, 2

## 0R22_0805
designator R?, comment value 0R22  Tol: 1%  Text1: 0805  (hidden comment: 0R22_R0805_1%)
Resistor Chip SMD; Manufacturer: Various; Part Number: 0R22 0805 1%; Watt: 125mW; Package: RESC0805X65N; EDM-PN: *; Text2: *; Reutech PN: *; SAAB PN: *; DCE Part No: *
footprint RESC0805X65N (Chip Resistor, 0805, 2-Leads, Body 2.0x1.3mm, IPC Medium Density)
pins: 1, 2

## 0R022_1206
designator R?, comment value 0R022  Tol: 1%  Text1: 1206  (hidden comment: 0R022_R1206_1%)
Resistor Chip SMD; Manufacturer: Various; Part Number: 0R022 1206 1%; Watt: 250mW; Package: RESC1206X71N; EDM-PN: *; Text2: *; Reutech PN: *; SAAB PN: *; DCE Part No: *
footprint RESC1206X71N (Chip Resistor, 1206, 2-Leads, Body 3.2x1.6mm, IPC Medium Density)
pins: 1, 2

## 0R022_1206-0.5W
designator R?, comment value 0R022  Tol: 1%  Text1: 1206  (hidden comment: 0R022_R1206_1%-0.5W)
Resistor Chip SMD; Manufacturer: Various; Part Number: 0R022 1206 1% 0.5W; Watt: 500mW; Package: RESC1206X71N; EDM-PN: *; Text2: *; Reutech PN: *; SAAB PN: *; DCE Part No: *
footprint RESC1206X71N (Chip Resistor, 1206, 2-Leads, Body 3.2x1.6mm, IPC Medium Density)
pins: 1, 2

## 0R022_1206-1W
designator R?, comment value 0R022  Watt: 1W  Text1: 1206  (hidden comment: 0R022_R1206_1%-1W)
Resistor Chip SMD; Manufacturer: Various; Part Number: 0R022 1206 1% 1W; Tol: 1%; Package: RESC1206X71N; EDM-PN: *; Text2: *; Reutech PN: *; SAAB PN: *; DCE Part No: *
footprint RESC1206X71N (Chip Resistor, 1206, 2-Leads, Body 3.2x1.6mm, IPC Medium Density)
pins: 1, 2

## 0R025-5W-1%-WSR5
designator R?, comment value 0R025  Watt: 5W  (hidden comment: WSR5R0250FEA)
Resistor Power Metal Strip; Manufacturer: Yageo; Tol: 1%; Reutech PN: 5905-WW-0138; Part Number: WSR5R0250FEA; Package: RES-WSR5; EDM-PN: *; Text2: *; Text1: *; SAAB PN: *; DCE Part No: *
footprint Res-WSR5 (Res WSR 5W 11.56x6.98mm)
pins: 1, 2

## 0R25_1206
designator R?, comment value 0R25  Tol: 1%  Text1: 1206  (hidden comment: 0R25_R1206_1%)
Resistor Chip SMD; Manufacturer: Various; Part Number: 0R25 1206 1%; Watt: 250mW; Package: RESC1206X71N; EDM-PN: *; Text2: *; Reutech PN: *; SAAB PN: *; DCE Part No: *
footprint RESC1206X71N (Chip Resistor, 1206, 2-Leads, Body 3.2x1.6mm, IPC Medium Density)
pins: 1, 2

## 0R025_2512
designator R?, comment value 0R025  Watt: 1W  Text1: 2512  (hidden comment: 0R025_R2512_1W_1%)
Resistor Chip SMD; Manufacturer: Various; Part Number: 0R025 2512  1%; Tol: 1%; Package: RESC2512X71N; EDM-PN: *; Text2: *; Reutech PN: *; SAAB PN: *; DCE Part No: *
footprint RESC2512X71N (Chip Resistor, 2512, 2-Leads, Body 6.3x3.2mm, IPC Medium Density)
pins: 1, 2

## 0R025_2512-CRA2512
designator R?, comment value 0R025  Watt: 3W  Text1: 2512  (hidden comment: 0R025_R2512_3W_1%)
Resistor Chip SMD; Manufacturer: Bourns; Part Number: CRA2512-FZ-R025ELF; Tol: 1%; Package: RESC2512X71N; EDM-PN: *; Text2: *; Reutech PN: *; SAAB PN: *; DCE Part No: *
footprint RESC2512X71N (Chip Resistor, 2512, 2-Leads, Body 6.3x3.2mm, IPC Medium Density)
pins: 1, 2

## 0R025_MCS1632_1W_1%
designator R?  value 0R025  Tol: 1%  Text1: 1206  (hidden comment: 0R025_MCS1632_1W_1%)
Res Metal Element Current Sense; Manufacturer: Ohmite; Part Number: MCS1632R025FER; Watt: 1W; Package: RES-MCS1631; EDM-PN: *; Text2: *; Reutech PN: *; SAAB PN: *; DCE Part No: *
footprint RES-MCS1632 (Chip Resistor 3.2x1.6mm)
pins: 1, 2

## 0R025_MCS3264_2W_1%
designator R?  value 0R025  Tol: 1%  Text1: 2512  (hidden comment: 0R025_MCS3264_2W_1%)
Res Metal Element Current Sense; Manufacturer: Ohmite; Part Number: MCS3264R025FER; Watt: 2W; Package: RES-MCS3264; EDM-PN: *; Text2: *; Reutech PN: *; SAAB PN: *; DCE Part No: *
footprint RES-MCS3264 (Chip Resistor 6.4x3.2mm)
pins: 1, 2

## 0R26_2512
designator R?, comment value 0R26  Watt: 1W  Text1: 2512  (hidden comment: 0R26_R2512_1%)
Resistor Chip SMD; Manufacturer: Various; Part Number: 0R26 2512 1%; Tol: 1%; Package: RESC2512X71N; EDM-PN: *; Text2: *; Reutech PN: *; SAAB PN: *; DCE Part No: *
footprint RESC2512X71N (Chip Resistor, 2512, 2-Leads, Body 6.3x3.2mm, IPC Medium Density)
pins: 1, 2

## 0R0028_2512-WSL2512R0350FEA
designator R?, comment value 0R0028  Watt: 3W  Text1: 2512  (hidden comment: WSLP25122L800FEA)
Resistor Pulse Withstanding Metal Element; Manufacturer: Vishay; Tol: 1%; Part Number: WSLP25122L800FEA; Package: WSL2512-0.007-0.5; EDM-PN: *; Text2: *; Reutech PN: *; SAAB PN: *; DCE Part No: *
footprint WSL2512-0.007-0.5 (Chip Resistor 2512 6.3x3.2mm)
pins: 1, 2

## 0R0028_WSL36372L800FEA
designator R?, comment value 0R0028  Watt: 3W  Text1: 3637  (hidden comment: WSL36372L800FEA)
Resistor Power Metal Strip; Manufacturer: Vishay; Tol: 1%; Part Number: WSL36372L800FEA; Package: WSL3637 0_002 to 0_01; EDM-PN: *; Text2: *; Reutech PN: *; SAAB PN: *; DCE Part No: *
footprint WSL3637 0_002 to 0_01 (WSL3637 0_002 to 0_01 9.14x9.4mm)
pins: 1, 2, 3, 4

## 0R33_1206
designator R?, comment value 0R33  Tol: 1%  Text1: 1206  (hidden comment: 0R33_R1206_1%)
Resistor Chip SMD; Manufacturer: Various; Part Number: 0R33 1206 1%; Watt: 250mW; Package: RESC1206X71N; EDM-PN: *; Text2: *; Reutech PN: *; SAAB PN: *; DCE Part No: *
footprint RESC1206X71N (Chip Resistor, 1206, 2-Leads, Body 3.2x1.6mm, IPC Medium Density)
pins: 1, 2

## 0R033_1206_0.5W-0.5%
designator R?, comment value 0R013  Watt: 0.5W  Text1: 1206  (hidden comment: 0R033_R1206)
Resistor Chip SMD; Manufacturer: Various; Part Number: 0R033 1206 0.5% 0.5W; Tol: 0.5%; Package: RESC1206X71N; EDM-PN: *; Text2: *; Reutech PN: *; SAAB PN: *; DCE Part No: *
footprint RESC1206X71N (Chip Resistor, 1206, 2-Leads, Body 3.2x1.6mm, IPC Medium Density)
pins: 1, 2

## 0R033_PRL1632-R033-F-T1
designator R?, comment value 0R033  Tol: 1%  Text1: 1632  (hidden comment: PRL1632-R033-F-T1)
Resistor Chip Low Resistance Long Side; Manufacturer: Susumu; Watt: 1W; Part Number: PRL1632-R033-F-T1; Package: RES-PRL1632; EDM-PN: *; Text2: *; Reutech PN: *; SAAB PN: *; DCE Part No: *
footprint RES-PRL1632 (PRL1632 3.2x1.6mm)
pins: 1, 2

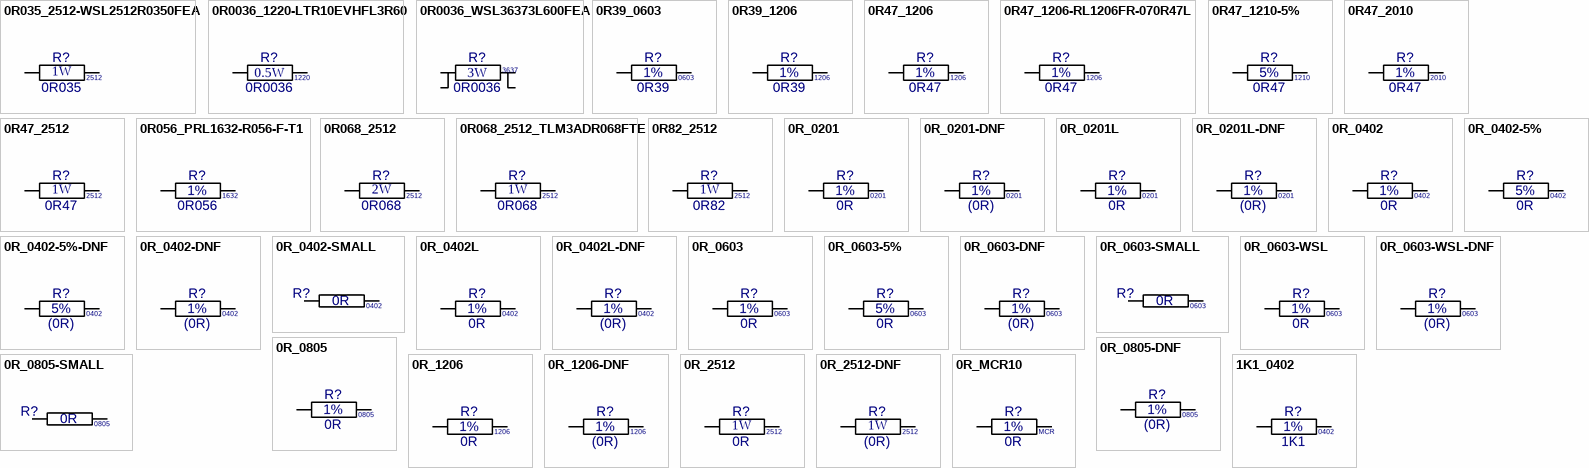
[diagram p3: symbols 0R035_2512-WSL2512R0350FEA to 1K1_0402]

## 0R035_2512-WSL2512R0350FEA
designator R?, comment value 0R035  Watt: 1W  Text1: 2512  (hidden comment: WSL2512R0350FEA)
Resistor Pulse Withstanding Metal Element; Manufacturer: Vishay; Tol: 1%; Part Number: WSL2512R0350FEA; Package: WSL2512-0.007-0.5; EDM-PN: *; Text2: *; Reutech PN: *; SAAB PN: *; DCE Part No: *
footprint WSL2512-0.007-0.5 (Chip Resistor 2512 6.3x3.2mm)
pins: 1, 2

## 0R0036_1220-LTR10EVHFL3R60
designator R?, comment value 0R0036  Watt: 0.5W  Text1: 1220  (hidden comment: LTR10EVHFL3R60)
Resistor High Power thick film shunt; Manufacturer: Rohm; Tol: 1%; Part Number: LTR10EVHFL3R60; Package: RES-LTR10; EDM-PN: *; Text2: *; Reutech PN: *; SAAB PN: *; DCE Part No: *
footprint RES-LTR10 (LTR10 1220 1.2x2.0mm)
pins: 1, 2

## 0R0036_WSL36373L600FEA
designator R?, comment value 0R0036  Watt: 3W  Text1: 3637  (hidden comment: WSL36373L600FEA)
Resistor Power Metal Strip; Manufacturer: Vishay; Tol: 1%; Part Number: WSL36373L600FEA; Package: WSL3637 0_002 to 0_01; EDM-PN: *; Text2: *; Reutech PN: *; SAAB PN: *; DCE Part No: *
footprint WSL3637 0_002 to 0_01 (WSL3637 0_002 to 0_01 9.14x9.4mm)
pins: 1, 2, 3, 4

## 0R39_0603
designator R?, comment value 0R39  Tol: 1%  Text1: 0603  (hidden comment: 0R39_R0603_1%)
Resistor Chip SMD; Manufacturer: Various; Part Number: 0R39 0603 1%; Watt: 100mW; Package: RESC0603X60N; EDM-PN: *; Text2: *; Reutech PN: *; SAAB PN: *; DCE Part No: *
footprint RESC0603X60N (Chip Resistor, 0603, 2-Leads, Body 1.6x0.8mm, IPC Medium Density)
pins: 1, 2

## 0R39_1206
designator R?, comment value 0R39  Tol: 1%  Text1: 1206  (hidden comment: 0R39_R1206_1%)
Resistor Chip SMD; Manufacturer: Various; Part Number: 0R39 1206 1%; Watt: 250mW; Package: RESC1206X71N; EDM-PN: *; Text2: *; Reutech PN: *; SAAB PN: *; DCE Part No: *
footprint RESC1206X71N (Chip Resistor, 1206, 2-Leads, Body 3.2x1.6mm, IPC Medium Density)
pins: 1, 2

## 0R47_1206
designator R?, comment value 0R47  Tol: 1%  Text1: 1206  (hidden comment: 0R47_R1206_1%)
Resistor Chip SMD; Manufacturer: Various; Part Number: 0R47 1206 1%; Watt: 250mW; Package: RESC1206X71N; EDM-PN: *; Text2: *; Reutech PN: *; SAAB PN: *; DCE Part No: *
footprint RESC1206X71N (Chip Resistor, 1206, 2-Leads, Body 3.2x1.6mm, IPC Medium Density)
pins: 1, 2

## 0R47_1206-RL1206FR-070R47L
designator R?, comment value 0R47  Tol: 1%  Text1: 1206  (hidden comment: RL1206FR-070R47L)
Resistor Thick Film; Manufacturer: Yageo; Watt: 250mW; Reutech PN: 5905-CR-0006; Part Number: RL1206FR-070R47L; Package: RESC1206X71N; EDM-PN: *; Text2: *; SAAB PN: *; DCE Part No: *
footprint RESC1206X71N (Chip Resistor, 1206, 2-Leads, Body 3.2x1.6mm, IPC Medium Density)
pins: 1, 2

## 0R47_1210-5%
designator R?, comment value 0R47  Tol: 5%  Text1: 1210  (hidden comment: 0R47_R1210_5%)
Resistor Chip SMD; Manufacturer: Vishay; Part Number: RCWE1210R470JKEA; Watt: 1W; Package: RESC1210X71N; EDM-PN: *; Text2: *; Reutech PN: *; SAAB PN: *; DCE Part No: *
footprint RESC1210X71N (Chip Resistor, 1210, 2-Leads, Body 3.2x2.5mm, IPC Medium Density)
pins: 1, 2

## 0R47_2010
designator R?, comment value 0R47  Tol: 1%  Text1: 2010  (hidden comment: 0R47_R2010_1%)
Resistor Chip SMD; Manufacturer: Various; Part Number: 0R47 2010 1%; Watt: 500mW; Package: RESC2010X71N; EDM-PN: *; Text2: *; Reutech PN: *; SAAB PN: *; DCE Part No: *
footprint RESC2010X71N (Chip Resistor, 2010, 2-Leads, Body 5.0x2.5mm, IPC Medium Density)
pins: 1, 2

## 0R47_2512
designator R?, comment value 0R47  Watt: 1W  Text1: 2512  (hidden comment: 0R47_R2512_1%)
Resistor Chip SMD; Manufacturer: Various; Part Number: 0R47 2512 1%; Tol: 1%; Package: RESC2512X71N; EDM-PN: *; Text2: *; Reutech PN: *; SAAB PN: *; DCE Part No: *
footprint RESC2512X71N (Chip Resistor, 2512, 2-Leads, Body 6.3x3.2mm, IPC Medium Density)
pins: 1, 2

## 0R056_PRL1632-R056-F-T1
designator R?, comment value 0R056  Tol: 1%  Text1: 1632  (hidden comment: PRL1632-R056-F-T1)
Resistor Chip Low Resistance Long Side; Manufacturer: Susumu; Watt: 1W; Part Number: PRL1632-R056-F-T1; Package: RES-PRL1632; EDM-PN: *; Text2: *; Reutech PN: *; SAAB PN: *; DCE Part No: *
footprint RES-PRL1632 (PRL1632 3.2x1.6mm)
pins: 1, 2

## 0R068_2512
designator R?, comment value 0R068  Watt: 2W  Text1: 2512  (hidden comment: 0R068_R2512_1%)
Resistor Metal Film; Manufacturer: Various; Part Number: 0R068 2512 1%; Tol: 1%; Package: RESC2512X71N; EDM-PN: *; Text2: *; Reutech PN: *; SAAB PN: *; DCE Part No: *
footprint RESC2512X71N (Chip Resistor, 2512, 2-Leads, Body 6.3x3.2mm, IPC Medium Density)
pins: 1, 2

## 0R068_2512_TLM3ADR068FTE
designator R?, comment value 0R068  Watt: 1W  Text1: 2512  (hidden comment: TLM3ADR068FTE)
Resistor Current Sense Metal Chip; Manufacturer: TE Connectivity; Tol: 1%; Part Number: TLM3ADR068FTE; Package: RESC2512X71N; EDM-PN: *; Text2: *; Reutech PN: *; SAAB PN: *; DCE Part No: *
footprint RESC2512X71N (Chip Resistor, 2512, 2-Leads, Body 6.3x3.2mm, IPC Medium Density)
pins: 1, 2